# EAGLE library part SN65176 (library NMX_ControllerSide_v1-3)
DIFFERENTIAL BUS TRANSCEIVER Source: http://focus.ti.com .. sn65176b.pdf
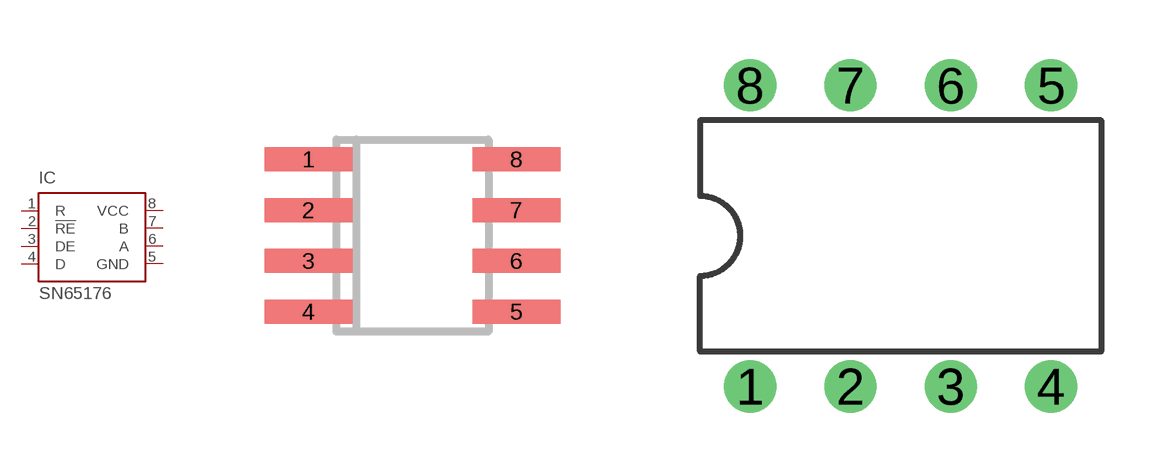
[diagram p9: symbol with the pads of SO-08; footprints SO-08, DIL08]

Designator prefix IC

## SN65176D (MF: TEXAS INSTRUMENTS; MPN: SN65176BD; OC_FARNELL: 9589970; OC_NEWARK: 08F5891)  [SO-08]
1  R  in
2  !RE  in
3  DE  in
4  D  in
5  GND  in
6  A  in
7  B  in
8  VCC  in

## SN65176P (MF: TEXAS INSTRUMENTS; MPN: SN65176BP; OC_FARNELL: 1755024; OC_NEWARK: 60K6785)  [DIL08]
Pads as for SO-08

## SN65176PS (OC_FARNELL: unknown; OC_NEWARK: unknown)  [SOP-08]
Pads as for SO-08

## Footprint SO-08 (pad centres in mm)
D (R-PDSO-G8) Plastic Small Outline Package Source: http://focus.ti.com/lit/ds/symlink/sn65als176.pdf
smd 2.2 x 0.6: 1 -2.6,1.905; 2 -2.6,0.635; 3 -2.6,-0.635; 4 -2.6,-1.905; 5 2.6,-1.905; 6 2.6,-0.635; 7 2.6,0.635; 8 2.6,1.905

## Footprint DIL08 (pad centres in mm)
Dual In Line Package
drill 0.813 pad 1.27: 1 -3.81,-3.81; 2 -1.27,-3.81; 3 1.27,-3.81; 4 3.81,-3.81; 5 3.81,3.81; 6 1.27,3.81; 7 -1.27,3.81; 8 -3.81,3.81

## Footprint SOP-08 (pad centres in mm)
PS (R-PDSO-G8) Source: http://focus.ti.com .. sn65176b.pdf
smd 0.6 x 2.2: 1 -1.905,-3.6; 2 -0.635,-3.6; 3 0.635,-3.6; 4 1.905,-3.6; 5 1.905,3.575; 6 0.635,3.575; 7 -0.635,3.575; 8 -1.905,3.575